# EAGLE library part XCR3032 (library Xilinx)
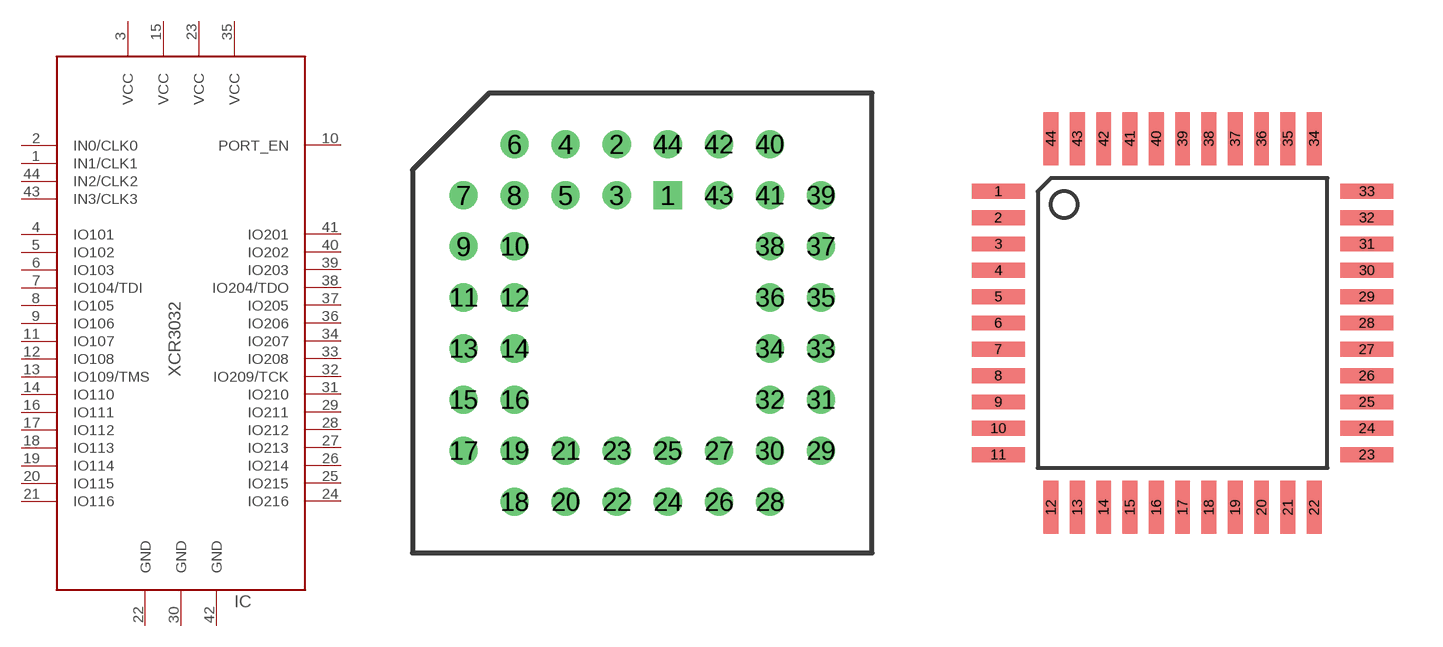
[diagram p3: symbol with the pads of PLCC-44T; footprints PLCC-44T, VQ44]

Designator prefix IC

## XCR3032-PC44  [PLCC-44T]
1  IN1/CLK1
2  IN0/CLK0
3  VCC  pwr
4  IO101
5  IO102
6  IO103
7  IO104/TDI
8  IO105
9  IO106
10  PORT_EN
11  IO107
12  IO108
13  IO109/TMS
14  IO110
15  VCC  pwr
16  IO111
17  IO112
18  IO113
19  IO114
20  IO115
21  IO116
22  GND  pwr
23  VCC  pwr
24  IO216
25  IO215
26  IO214
27  IO213
28  IO212
29  IO211
30  GND  pwr
31  IO210
32  IO209/TCK
33  IO208
34  IO207
35  VCC  pwr
36  IO206
37  IO205
38  IO204/TDO
39  IO203
40  IO202
41  IO201
42  GND  pwr
43  IN3/CLK3
44  IN2/CLK2

## XCR3032-VQ44  [VQ44]
1  IO104/TDI
2  IO105
3  IO106
4  PORT_EN
5  IO107
6  IO108
7  IO109/TMS
8  IO110
9  VCC  pwr
10  IO111
11  IO112
12  IO113
13  IO114
14  IO115
15  IO116
16  GND  pwr
17  VCC  pwr
18  IO216
19  IO215
20  IO214
21  IO213
22  IO212
23  IO211
24  GND  pwr
25  IO210
26  IO209/TCK
27  IO208
28  IO207
29  VCC  pwr
30  IO206
31  IO205
32  IO204/TDO
33  IO203
34  IO202
35  IO201
36  GND  pwr
37  IN3/CLK3
38  IN2/CLK2
39  IN1/CLK1
40  IN0/CLK0
41  VCC  pwr
42  IO101
43  IO102
44  IO103

## Footprint PLCC-44T (pad centres in mm)
44 pin PLCC, through hole socket
drill 0.889 square: 1 1.27,6.35
drill 0.889 round: 2 -1.27,8.89; 3 -1.27,6.35; 4 -3.81,8.89; 5 -3.81,6.35; 6 -6.35,8.89; 7 -8.89,6.35; 8 -6.35,6.35; 9 -8.89,3.81; 10 -6.35,3.81; 11 -8.89,1.27; 12 -6.35,1.27; 13 -8.89,-1.27; 14 -6.35,-1.27; 15 -8.89,-3.81; 16 -6.35,-3.81; 17 -8.89,-6.35; 18 -6.35,-8.89; 19 -6.35,-6.35; 20 -3.81,-8.89; 21 -3.81,-6.35; 22 -1.27,-8.89; 23 -1.27,-6.35; 24 1.27,-8.89; 25 1.27,-6.35; 26 3.81,-8.89; 27 3.81,-6.35; 28 6.35,-8.89; 29 8.89,-6.35; 30 6.35,-6.35; 31 8.89,-3.81; 32 6.35,-3.81; 33 8.89,-1.27; 34 6.35,-1.27; 35 8.89,1.27; 36 6.35,1.27; 37 8.89,3.81; 38 6.35,3.81; 39 8.89,6.35; 40 6.35,8.89; 41 6.35,6.35; 42 3.81,8.89; 43 3.81,6.35; 44 1.27,8.89

## Footprint VQ44 (pad centres in mm)
VQFP 44
smd 1.6 x 0.45: 1 -5.6,4; 2 -5.6,3.2; 3 -5.6,2.4; 4 -5.6,1.6; 5 -5.6,0.8; 6 -5.6,0; 7 -5.6,-0.8; 8 -5.6,-1.6; 9 -5.6,-2.4; 10 -5.6,-3.2; 11 -5.6,-4; 23 5.6,-4; 24 5.6,-3.2; 25 5.6,-2.4; 26 5.6,-1.6; 27 5.6,-0.8; 28 5.6,0; 29 5.6,0.8; 30 5.6,1.6; 31 5.6,2.4; 32 5.6,3.2; 33 5.6,4
smd 0.45 x 1.6: 12 -4,-5.6; 13 -3.2,-5.6; 14 -2.4,-5.6; 15 -1.6,-5.6; 16 -0.8,-5.6; 17 0,-5.6; 18 0.8,-5.6; 19 1.6,-5.6; 20 2.4,-5.6; 21 3.2,-5.6; 22 4,-5.6; 34 4,5.6; 35 3.2,5.6; 36 2.4,5.6; 37 1.6,5.6; 38 0.8,5.6; 39 0,5.6; 40 -0.8,5.6; 41 -1.6,5.6; 42 -2.4,5.6; 43 -3.2,5.6; 44 -4,5.6